# EAGLE library part AT42QT1070 (library QT1070)
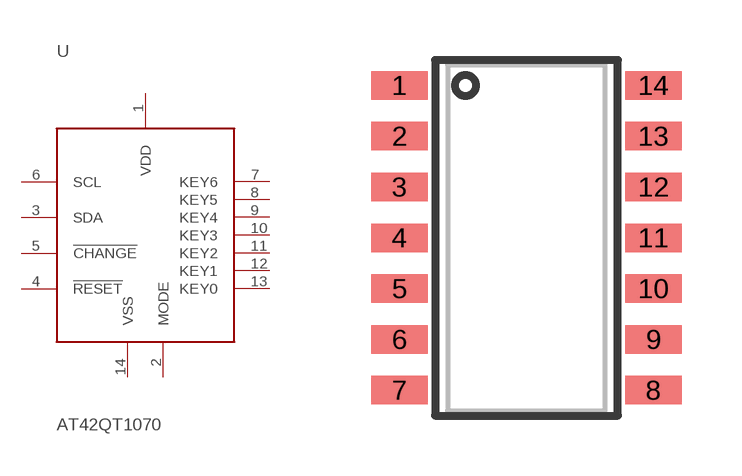
[diagram p1: symbol with the pads of QT1070; footprint QT1070]

Designator prefix U

## AT42QT1070  [QT1070]
1  VDD
2  MODE
3  SDA
4  !RESET
5  !CHANGE
6  SCL
7  KEY6
8  KEY5
9  KEY4
10  KEY3
11  KEY2
12  KEY1
13  KEY0
14  VSS

## Footprint QT1070 (pad centres in mm)
smd 1.422 x 0.711: 1 -3.175,3.81; 2 -3.175,2.54; 3 -3.175,1.27; 4 -3.175,0; 5 -3.175,-1.27; 6 -3.175,-2.54; 7 -3.175,-3.81; 8 3.175,-3.81; 9 3.175,-2.54; 10 3.175,-1.27; 11 3.175,0; 12 3.175,1.27; 13 3.175,2.54; 14 3.175,3.81